# EAGLE library part 929850-01-10-RA (library Common-Parts-Library-Eagle)
80000908675 929850-01-10-Ra=10/.100/Str/Skt/1r/.1
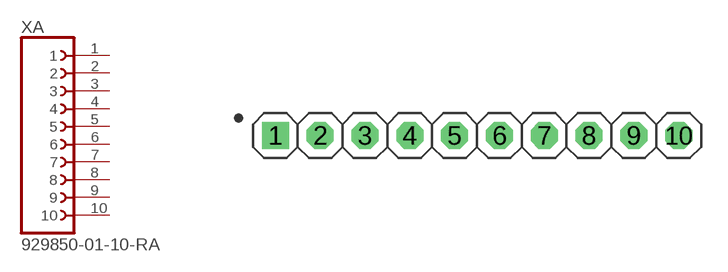
[diagram p10: symbol with the pads of 3M_929850-01-10-RA; footprint 3M_929850-01-10-RA]

Designator prefix XA

## 929850-01-10-RA (MANUFACTURER: 3M)  [3M_929850-01-10-RA]
1  1  pas
2  2  pas
3  3  pas
4  4  pas
5  5  pas
6  6  pas
7  7  pas
8  8  pas
9  9  pas
10  10  pas

## Footprint 3M_929850-01-10-RA (pad centres in mm)
drill 1.02 square: 1 -11.43,0
drill 1.02 octagon: 2 -8.89,0; 3 -6.35,0; 4 -3.81,0; 5 -1.27,0; 6 1.27,0; 7 3.81,0; 8 6.35,0; 9 8.89,0; 10 11.43,0